# Altium schematic symbol library WL-OCTR.SchLib: 103 symbols (part 1 of 2)
Pins are listed as number, name and electrical type; pins without a type are passive.

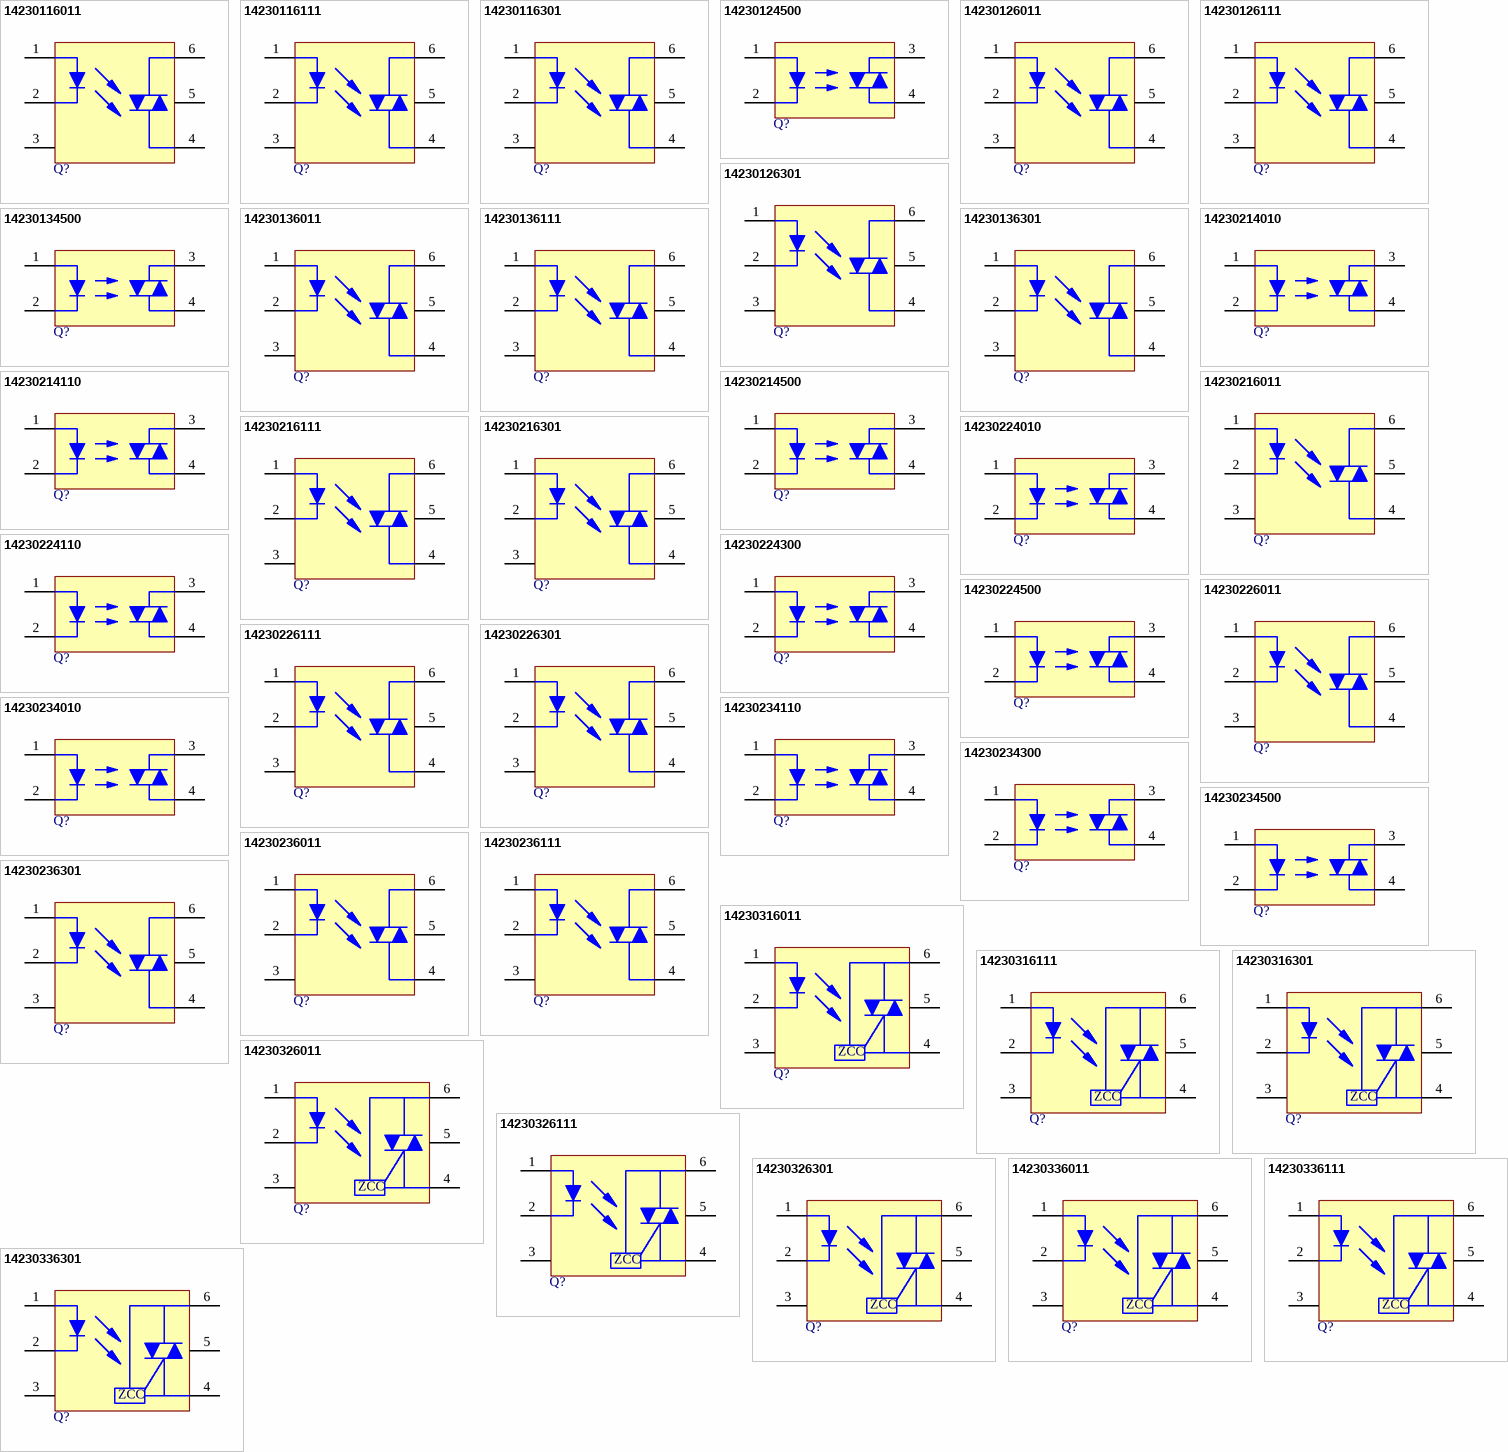
[diagram p0: symbols 14230116011 to 14230336301]

## 14230116011
designator Q?, comment 15mA, 1.24V  (value not drawn)
WL-OCTR Optocoupler Triac, THT, DIP-6_Standard, 15mA, 1.24V; Manufacturer Part Number: 14230116011; Manufacturer: Wurth Elektronik; Isolation Voltage: 5000V (RMS); Repetitive Peak Off-state Voltage: 250V; Type: Random phase; Category: Optocoupler Triac; Match Code: WL-OCTR; ComponentLink1Description: Website Link; ComponentLink1URL: https://www.we-online.com/redexpert/article/14230116011?ad; ComponentLink2Description: Datasheet Link; ComponentLink2URL: https://www.we-online.com/redexpert/spec/14230116011?ad; Mount: Through Hole; Operating Temperature Max: 100°C; Operating Temperature Min: -40°C; Packaging: Tube; Case/Size Code: DIP-6_Standard; Forward Voltage: 1.24V; LED Trigger current: 15mA
footprint WL-OCTR_DIP-6_Standard
pins: 1 Anode, 2 Cathode, 3 NC, 4 Terminal, 5 NC, 6 Terminal

## 14230116111
designator Q?, comment 15mA, 1.24V  (value not drawn)
WL-OCTR Optocoupler Triac, THT, DIP-6_M-Type, 15mA, 1.24V; Manufacturer Part Number: 14230116111; Manufacturer: Wurth Elektronik; Isolation Voltage: 5000V (RMS); Repetitive Peak Off-state Voltage: 250V; Type: Random phase; Category: Optocoupler Triac; Match Code: WL-OCTR; ComponentLink1Description: Website Link; ComponentLink1URL: https://www.we-online.com/redexpert/article/14230116111?ad; ComponentLink2Description: Datasheet Link; ComponentLink2URL: https://www.we-online.com/redexpert/spec/14230116111?ad; Mount: Through Hole; Operating Temperature Max: 100°C; Operating Temperature Min: -40°C; Packaging: Tube; Case/Size Code: DIP-6_M-Type; Forward Voltage: 1.24V; LED Trigger current: 15mA
footprint WL-OCTR_DIP-6_M-Type
pins: 1 Anode, 2 Cathode, 3 NC, 4 Terminal, 5 NC, 6 Terminal

## 14230116301
designator Q?, comment 15mA, 1.24V  (value not drawn)
WL-OCTR Optocoupler Triac, SMT, DIP-6_SL-Type, 15mA, 1.24V; Manufacturer Part Number: 14230116301; Manufacturer: Wurth Elektronik; Isolation Voltage: 5000V (RMS); Repetitive Peak Off-state Voltage: 250V; Type: Random phase; Category: Optocoupler Triac; Match Code: WL-OCTR; ComponentLink1Description: Website Link; ComponentLink1URL: https://www.we-online.com/redexpert/article/14230116301?ad; ComponentLink2Description: Datasheet Link; ComponentLink2URL: https://www.we-online.com/redexpert/spec/14230116301?ad; Mount: Surface Mount; Operating Temperature Max: 100°C; Operating Temperature Min: -40°C; Packaging: Tube; Case/Size Code: DIP-6_SL-Type; Forward Voltage: 1.24V; LED Trigger current: 15mA
footprint WL-OCTR_DIP-6_SL-Type
pins: 1 Anode, 2 Cathode, 3 NC, 4 Terminal, 5 NC, 6 Terminal

## 14230124500
designator Q?, comment 10mA, 1.24V  (value not drawn)
WL-OCTR Optocoupler Triac, SMT, SOP-4_Standard, 10mA, 1.24V; Manufacturer Part Number: 14230124500; Manufacturer: Wurth Elektronik; Isolation Voltage: 3750V (RMS); Repetitive Peak Off-state Voltage: 250V; Type: Random phase; Category: Optocoupler Triac; Match Code: WL-OCTR; ComponentLink1Description: Website Link; ComponentLink1URL: https://www.we-online.com/redexpert/article/14230124500?ad; ComponentLink2Description: Datasheet Link; ComponentLink2URL: https://www.we-online.com/redexpert/spec/14230124500?ad; Mount: Surface Mount; Operating Temperature Max: 100°C; Operating Temperature Min: -40°C; Packaging: Tape and Reel; Case/Size Code: SOP-4_Standard; Forward Voltage: 1.24V; LED Trigger current: 10mA
footprint WL-OCTR_SOP-4_Standard
pins: 1 Anode, 2 Cathode, 3 Terminal, 4 Terminal

## 14230126011
designator Q?, comment 10mA, 1.24V  (value not drawn)
WL-OCTR Optocoupler Triac, THT, DIP-6_Standard, 10mA, 1.24V; Manufacturer Part Number: 14230126011; Manufacturer: Wurth Elektronik; Isolation Voltage: 5000V (RMS); Repetitive Peak Off-state Voltage: 250V; Type: Random phase; Category: Optocoupler Triac; Match Code: WL-OCTR; ComponentLink1Description: Website Link; ComponentLink1URL: https://www.we-online.com/redexpert/article/14230126011?ad; ComponentLink2Description: Datasheet Link; ComponentLink2URL: https://www.we-online.com/redexpert/spec/14230126011?ad; Mount: Through Hole; Operating Temperature Max: 100°C; Operating Temperature Min: -40°C; Packaging: Tube; Case/Size Code: DIP-6_Standard; Forward Voltage: 1.24V; LED Trigger current: 10mA
footprint WL-OCTR_DIP-6_Standard
pins: 1 Anode, 2 Cathode, 3 NC, 4 Terminal, 5 NC, 6 Terminal

## 14230126111
designator Q?, comment 10mA, 1.24V  (value not drawn)
WL-OCTR Optocoupler Triac, THT, DIP-6_M-Type, 10mA, 1.24V; Manufacturer Part Number: 14230126111; Manufacturer: Wurth Elektronik; Isolation Voltage: 5000V (RMS); Repetitive Peak Off-state Voltage: 250V; Type: Random phase; Category: Optocoupler Triac; Match Code: WL-OCTR; ComponentLink1Description: Website Link; ComponentLink1URL: https://www.we-online.com/redexpert/article/14230126111?ad; ComponentLink2Description: Datasheet Link; ComponentLink2URL: https://www.we-online.com/redexpert/spec/14230126111?ad; Mount: Through Hole; Operating Temperature Max: 100°C; Operating Temperature Min: -40°C; Packaging: Tube; Case/Size Code: DIP-6_M-Type; Forward Voltage: 1.24V; LED Trigger current: 10mA
footprint WL-OCTR_DIP-6_M-Type
pins: 1 Anode, 2 Cathode, 3 NC, 4 Terminal, 5 NC, 6 Terminal

## 14230126301
designator Q?, comment 10mA, 1.24V  (value not drawn)
WL-OCTR Optocoupler Triac, SMT, DIP-6_SL-Type, 10mA, 1.24V; Manufacturer Part Number: 14230126301; Manufacturer: Wurth Elektronik; Isolation Voltage: 5000V (RMS); Repetitive Peak Off-state Voltage: 250V; Type: Random phase; Category: Optocoupler Triac; Match Code: WL-OCTR; ComponentLink1Description: Website Link; ComponentLink1URL: https://www.we-online.com/redexpert/article/14230126301?ad; ComponentLink2Description: Datasheet Link; ComponentLink2URL: https://www.we-online.com/redexpert/spec/14230126301?ad; Mount: Surface Mount; Operating Temperature Max: 100°C; Operating Temperature Min: -40°C; Packaging: Tube; Case/Size Code: DIP-6_SL-Type; Forward Voltage: 1.24V; LED Trigger current: 10mA
footprint WL-OCTR_DIP-6_SL-Type
pins: 1 Anode, 2 Cathode, 3 NC, 4 Terminal, 5 NC, 6 Terminal

## 14230134500
designator Q?, comment 5mA, 1.24V  (value not drawn)
WL-OCTR Optocoupler Triac, SMT, SOP-4_Standard, 5mA, 1.24V; Manufacturer Part Number: 14230134500; Manufacturer: Wurth Elektronik; Isolation Voltage: 3750V (RMS); Repetitive Peak Off-state Voltage: 250V; Type: Random phase; Category: Optocoupler Triac; Match Code: WL-OCTR; ComponentLink1Description: Website Link; ComponentLink1URL: https://www.we-online.com/redexpert/article/14230134500?ad; ComponentLink2Description: Datasheet Link; ComponentLink2URL: https://www.we-online.com/redexpert/spec/14230134500?ad; Mount: Surface Mount; Operating Temperature Max: 100°C; Operating Temperature Min: -40°C; Packaging: Tape and Reel; Case/Size Code: SOP-4_Standard; Forward Voltage: 1.24V; LED Trigger current: 5mA
footprint WL-OCTR_SOP-4_Standard
pins: 1 Anode, 2 Cathode, 3 Terminal, 4 Terminal

## 14230136011
designator Q?, comment 5mA, 1.24V  (value not drawn)
WL-OCTR Optocoupler Triac, THT, DIP-6_Standard, 5mA, 1.24V; Manufacturer Part Number: 14230136011; Manufacturer: Wurth Elektronik; Isolation Voltage: 5000V (RMS); Repetitive Peak Off-state Voltage: 250V; Type: Random phase; Category: Optocoupler Triac; Match Code: WL-OCTR; ComponentLink1Description: Website Link; ComponentLink1URL: https://www.we-online.com/redexpert/article/14230136011?ad; ComponentLink2Description: Datasheet Link; ComponentLink2URL: https://www.we-online.com/redexpert/spec/14230136011?ad; Mount: Through Hole; Operating Temperature Max: 100°C; Operating Temperature Min: -40°C; Packaging: Tube; Case/Size Code: DIP-6_Standard; Forward Voltage: 1.24V; LED Trigger current: 5mA
footprint WL-OCTR_DIP-6_Standard
pins: 1 Anode, 2 Cathode, 3 NC, 4 Terminal, 5 NC, 6 Terminal

## 14230136111
designator Q?, comment 5mA, 1.24V  (value not drawn)
WL-OCTR Optocoupler Triac, THT, DIP-6_M-Type, 5mA, 1.24V; Manufacturer Part Number: 14230136111; Manufacturer: Wurth Elektronik; Isolation Voltage: 5000V (RMS); Repetitive Peak Off-state Voltage: 250V; Type: Random phase; Category: Optocoupler Triac; Match Code: WL-OCTR; ComponentLink1Description: Website Link; ComponentLink1URL: https://www.we-online.com/redexpert/article/14230136111?ad; ComponentLink2Description: Datasheet Link; ComponentLink2URL: https://www.we-online.com/redexpert/spec/14230136111?ad; Mount: Through Hole; Operating Temperature Max: 100°C; Operating Temperature Min: -40°C; Packaging: Tube; Case/Size Code: DIP-6_M-Type; Forward Voltage: 1.24V; LED Trigger current: 5mA
footprint WL-OCTR_DIP-6_M-Type
pins: 1 Anode, 2 Cathode, 3 NC, 4 Terminal, 5 NC, 6 Terminal

## 14230136301
designator Q?, comment 5mA, 1.24V  (value not drawn)
WL-OCTR Optocoupler Triac, SMT, DIP-6_SL-Type, 5mA, 1.24V; Manufacturer Part Number: 14230136301; Manufacturer: Wurth Elektronik; Isolation Voltage: 5000V (RMS); Repetitive Peak Off-state Voltage: 250V; Type: Random phase; Category: Optocoupler Triac; Match Code: WL-OCTR; ComponentLink1Description: Website Link; ComponentLink1URL: https://www.we-online.com/redexpert/article/14230136301?ad; ComponentLink2Description: Datasheet Link; ComponentLink2URL: https://www.we-online.com/redexpert/spec/14230136301?ad; Mount: Surface Mount; Operating Temperature Max: 100°C; Operating Temperature Min: -40°C; Packaging: Tube; Case/Size Code: DIP-6_SL-Type; Forward Voltage: 1.24V; LED Trigger current: 5mA
footprint WL-OCTR_DIP-6_SL-Type
pins: 1 Anode, 2 Cathode, 3 NC, 4 Terminal, 5 NC, 6 Terminal

## 14230214010
designator Q?, comment 15mA, 1.24V  (value not drawn)
WL-OCTR Optocoupler Triac, THT, DIP-4_Standard, 15mA, 1.24V; Manufacturer Part Number: 14230214010; Manufacturer: Wurth Elektronik; Isolation Voltage: 5000V (RMS); Repetitive Peak Off-state Voltage: 400V; Type: Random phase; Category: Optocoupler Triac; Match Code: WL-OCTR; ComponentLink1Description: Website Link; ComponentLink1URL: https://www.we-online.com/redexpert/article/14230214010?ad; ComponentLink2Description: Datasheet Link; ComponentLink2URL: https://www.we-online.com/redexpert/spec/14230214010?ad; Mount: Through Hole; Operating Temperature Max: 100°C; Operating Temperature Min: -40°C; Packaging: Tube; Case/Size Code: DIP-4_Standard; Forward Voltage: 1.24V; LED Trigger current: 15mA
footprint WL-OCTR_DIP-4_Standard
pins: 1 Anode, 2 Cathode, 3 Terminal, 4 Terminal

## 14230214110
designator Q?, comment 15mA, 1.24V  (value not drawn)
WL-OCTR Optocoupler Triac, THT, DIP-4_M-Type, 15mA, 1.24V; Manufacturer Part Number: 14230214110; Manufacturer: Wurth Elektronik; Isolation Voltage: 5000V (RMS); Repetitive Peak Off-state Voltage: 400V; Type: Random phase; Category: Optocoupler Triac; Match Code: WL-OCTR; ComponentLink1Description: Website Link; ComponentLink1URL: https://www.we-online.com/redexpert/article/14230214110?ad; ComponentLink2Description: Datasheet Link; ComponentLink2URL: https://www.we-online.com/redexpert/spec/14230214110?ad; Mount: Through Hole; Operating Temperature Max: 100°C; Operating Temperature Min: -40°C; Packaging: Tube; Case/Size Code: DIP-4_M-Type; Forward Voltage: 1.24V; LED Trigger current: 15mA
footprint WL-OCTR_DIP-4_M-Type
pins: 1 Anode, 2 Cathode, 3 Terminal, 4 Terminal

## 14230214500
designator Q?, comment 15mA, 1.24V  (value not drawn)
WL-OCTR Optocoupler Triac, SMT, SOP-4_Standard, 15mA, 1.24V; Manufacturer Part Number: 14230214500; Manufacturer: Wurth Elektronik; Isolation Voltage: 3750V (RMS); Repetitive Peak Off-state Voltage: 400V; Type: Random phase; Category: Optocoupler Triac; Match Code: WL-OCTR; ComponentLink1Description: Website Link; ComponentLink1URL: https://www.we-online.com/redexpert/article/14230214500?ad; ComponentLink2Description: Datasheet Link; ComponentLink2URL: https://www.we-online.com/redexpert/spec/14230214500?ad; Mount: Surface Mount; Operating Temperature Max: 100°C; Operating Temperature Min: -40°C; Packaging: Tape and Reel; Case/Size Code: SOP-4_Standard; Forward Voltage: 1.24V; LED Trigger current: 15mA
footprint WL-OCTR_SOP-4_Standard
pins: 1 Anode, 2 Cathode, 3 Terminal, 4 Terminal

## 14230216011
designator Q?, comment 15mA, 1.24V  (value not drawn)
WL-OCTR Optocoupler Triac, THT, DIP-6_Standard, 15mA, 1.24V; Manufacturer Part Number: 14230216011; Manufacturer: Wurth Elektronik; Isolation Voltage: 5000V (RMS); Repetitive Peak Off-state Voltage: 400V; Type: Random phase; Category: Optocoupler Triac; Match Code: WL-OCTR; ComponentLink1Description: Website Link; ComponentLink1URL: https://www.we-online.com/redexpert/article/14230216011?ad; ComponentLink2Description: Datasheet Link; ComponentLink2URL: https://www.we-online.com/redexpert/spec/14230216011?ad; Mount: Through Hole; Operating Temperature Max: 100°C; Operating Temperature Min: -40°C; Packaging: Tube; Case/Size Code: DIP-6_Standard; Forward Voltage: 1.24V; LED Trigger current: 15mA
footprint WL-OCTR_DIP-6_Standard
pins: 1 Anode, 2 Cathode, 3 NC, 4 Terminal, 5 NC, 6 Terminal

## 14230216111
designator Q?, comment 15mA, 1.24V  (value not drawn)
WL-OCTR Optocoupler Triac, THT, DIP-6_M-Type, 15mA, 1.24V; Manufacturer Part Number: 14230216111; Manufacturer: Wurth Elektronik; Isolation Voltage: 5000V (RMS); Repetitive Peak Off-state Voltage: 400V; Type: Random phase; Category: Optocoupler Triac; Match Code: WL-OCTR; ComponentLink1Description: Website Link; ComponentLink1URL: https://www.we-online.com/redexpert/article/14230216111?ad; ComponentLink2Description: Datasheet Link; ComponentLink2URL: https://www.we-online.com/redexpert/spec/14230216111?ad; Mount: Through Hole; Operating Temperature Max: 100°C; Operating Temperature Min: -40°C; Packaging: Tube; Case/Size Code: DIP-6_M-Type; Forward Voltage: 1.24V; LED Trigger current: 15mA
footprint WL-OCTR_DIP-6_M-Type
pins: 1 Anode, 2 Cathode, 3 NC, 4 Terminal, 5 NC, 6 Terminal

## 14230216301
designator Q?, comment 15mA, 1.24V  (value not drawn)
WL-OCTR Optocoupler Triac, SMT, DIP-6_SL-Type, 15mA, 1.24V; Manufacturer Part Number: 14230216301; Manufacturer: Wurth Elektronik; Isolation Voltage: 5000V (RMS); Repetitive Peak Off-state Voltage: 400V; Type: Random phase; Category: Optocoupler Triac; Match Code: WL-OCTR; ComponentLink1Description: Website Link; ComponentLink1URL: https://www.we-online.com/redexpert/article/14230216301?ad; ComponentLink2Description: Datasheet Link; ComponentLink2URL: https://www.we-online.com/redexpert/spec/14230216301?ad; Mount: Surface Mount; Operating Temperature Max: 100°C; Operating Temperature Min: -40°C; Packaging: Tube; Case/Size Code: DIP-6_SL-Type; Forward Voltage: 1.24V; LED Trigger current: 15mA
footprint WL-OCTR_DIP-6_SL-Type
pins: 1 Anode, 2 Cathode, 3 NC, 4 Terminal, 5 NC, 6 Terminal

## 14230224010
designator Q?, comment 10mA, 1.24V  (value not drawn)
WL-OCTR Optocoupler Triac, THT, DIP-4_Standard, 10mA, 1.24V; Manufacturer Part Number: 14230224010; Manufacturer: Wurth Elektronik; Isolation Voltage: 5000V (RMS); Repetitive Peak Off-state Voltage: 400V; Type: Random phase; Category: Optocoupler Triac; Match Code: WL-OCTR; ComponentLink1Description: Website Link; ComponentLink1URL: https://www.we-online.com/redexpert/article/14230224010?ad; ComponentLink2Description: Datasheet Link; ComponentLink2URL: https://www.we-online.com/redexpert/spec/14230224010?ad; Mount: Through Hole; Operating Temperature Max: 100°C; Operating Temperature Min: -40°C; Packaging: Tube; Case/Size Code: DIP-4_Standard; Forward Voltage: 1.24V; LED Trigger current: 10mA
footprint WL-OCTR_DIP-4_Standard
pins: 1 Anode, 2 Cathode, 3 Terminal, 4 Terminal

## 14230224110
designator Q?, comment 10mA, 1.24V  (value not drawn)
WL-OCTR Optocoupler Triac, THT, DIP-4_M-Type, 10mA, 1.24V; Manufacturer Part Number: 14230224110; Manufacturer: Wurth Elektronik; Isolation Voltage: 5000V (RMS); Repetitive Peak Off-state Voltage: 400V; Type: Random phase; Category: Optocoupler Triac; Match Code: WL-OCTR; ComponentLink1Description: Website Link; ComponentLink1URL: https://www.we-online.com/redexpert/article/14230224110?ad; ComponentLink2Description: Datasheet Link; ComponentLink2URL: https://www.we-online.com/redexpert/spec/14230224110?ad; Mount: Through Hole; Operating Temperature Max: 100°C; Operating Temperature Min: -40°C; Packaging: Tube; Case/Size Code: DIP-4_M-Type; Forward Voltage: 1.24V; LED Trigger current: 10mA
footprint WL-OCTR_DIP-4_M-Type
pins: 1 Anode, 2 Cathode, 3 Terminal, 4 Terminal

## 14230224300
designator Q?, comment 10mA, 1.24V  (value not drawn)
WL-OCTR Optocoupler Triac, SMT, DIP-4_SL-Type, 10mA, 1.24V; Manufacturer Part Number: 14230224300; Manufacturer: Wurth Elektronik; Isolation Voltage: 5000V (RMS); Repetitive Peak Off-state Voltage: 400V; Type: Random phase; Category: Optocoupler Triac; Match Code: WL-OCTR; ComponentLink1Description: Website Link; ComponentLink1URL: https://www.we-online.com/redexpert/article/14230224300?ad; ComponentLink2Description: Datasheet Link; ComponentLink2URL: https://www.we-online.com/redexpert/spec/14230224300?ad; Mount: Surface Mount; Operating Temperature Max: 100°C; Operating Temperature Min: -40°C; Packaging: Tube; Case/Size Code: DIP-4_SL-Type; Forward Voltage: 1.24V; LED Trigger current: 10mA
footprint WL-OCTR_DIP-4_SL-Type
pins: 1 Anode, 2 Cathode, 3 Terminal, 4 Terminal

## 14230224500
designator Q?, comment 10mA, 1.24V  (value not drawn)
WL-OCTR Optocoupler Triac, SMT, SOP-4_Standard, 10mA, 1.24V; Manufacturer Part Number: 14230224500; Manufacturer: Wurth Elektronik; Isolation Voltage: 3750V (RMS); Repetitive Peak Off-state Voltage: 400V; Type: Random phase; Category: Optocoupler Triac; Match Code: WL-OCTR; ComponentLink1Description: Website Link; ComponentLink1URL: https://www.we-online.com/redexpert/article/14230224500?ad; ComponentLink2Description: Datasheet Link; ComponentLink2URL: https://www.we-online.com/redexpert/spec/14230224500?ad; Mount: Surface Mount; Operating Temperature Max: 100°C; Operating Temperature Min: -40°C; Packaging: Tape and Reel; Case/Size Code: SOP-4_Standard; Forward Voltage: 1.24V; LED Trigger current: 10mA
footprint WL-OCTR_SOP-4_Standard
pins: 1 Anode, 2 Cathode, 3 Terminal, 4 Terminal

## 14230226011
designator Q?, comment 10mA, 1.24V  (value not drawn)
WL-OCTR Optocoupler Triac, THT, DIP-6_Standard, 10mA, 1.24V; Manufacturer Part Number: 14230226011; Manufacturer: Wurth Elektronik; Isolation Voltage: 5000V (RMS); Repetitive Peak Off-state Voltage: 400V; Type: Random phase; Category: Optocoupler Triac; Match Code: WL-OCTR; ComponentLink1Description: Website Link; ComponentLink1URL: https://www.we-online.com/redexpert/article/14230226011?ad; ComponentLink2Description: Datasheet Link; ComponentLink2URL: https://www.we-online.com/redexpert/spec/14230226011?ad; Mount: Through Hole; Operating Temperature Max: 100°C; Operating Temperature Min: -40°C; Packaging: Tube; Case/Size Code: DIP-6_Standard; Forward Voltage: 1.24V; LED Trigger current: 10mA
footprint WL-OCTR_DIP-6_Standard
pins: 1 Anode, 2 Cathode, 3 NC, 4 Terminal, 5 NC, 6 Terminal

## 14230226111
designator Q?, comment 10mA, 1.24V  (value not drawn)
WL-OCTR Optocoupler Triac, THT, DIP-6_M-Type, 10mA, 1.24V; Manufacturer Part Number: 14230226111; Manufacturer: Wurth Elektronik; Isolation Voltage: 5000V (RMS); Repetitive Peak Off-state Voltage: 400V; Type: Random phase; Category: Optocoupler Triac; Match Code: WL-OCTR; ComponentLink1Description: Website Link; ComponentLink1URL: https://www.we-online.com/redexpert/article/14230226111?ad; ComponentLink2Description: Datasheet Link; ComponentLink2URL: https://www.we-online.com/redexpert/spec/14230226111?ad; Mount: Through Hole; Operating Temperature Max: 100°C; Operating Temperature Min: -40°C; Packaging: Tube; Case/Size Code: DIP-6_M-Type; Forward Voltage: 1.24V; LED Trigger current: 10mA
footprint WL-OCTR_DIP-6_M-Type
pins: 1 Anode, 2 Cathode, 3 NC, 4 Terminal, 5 NC, 6 Terminal

## 14230226301
designator Q?, comment 10mA, 1.24V  (value not drawn)
WL-OCTR Optocoupler Triac, SMT, DIP-6_SL-Type, 10mA, 1.24V; Manufacturer Part Number: 14230226301; Manufacturer: Wurth Elektronik; Isolation Voltage: 5000V (RMS); Repetitive Peak Off-state Voltage: 400V; Type: Random phase; Category: Optocoupler Triac; Match Code: WL-OCTR; ComponentLink1Description: Website Link; ComponentLink1URL: https://www.we-online.com/redexpert/article/14230226301?ad; ComponentLink2Description: Datasheet Link; ComponentLink2URL: https://www.we-online.com/redexpert/spec/14230226301?ad; Mount: Surface Mount; Operating Temperature Max: 100°C; Operating Temperature Min: -40°C; Packaging: Tube; Case/Size Code: DIP-6_SL-Type; Forward Voltage: 1.24V; LED Trigger current: 10mA
footprint WL-OCTR_DIP-6_SL-Type
pins: 1 Anode, 2 Cathode, 3 NC, 4 Terminal, 5 NC, 6 Terminal

## 14230234010
designator Q?, comment 5mA, 1.24V  (value not drawn)
WL-OCTR Optocoupler Triac, THT, DIP-4_Standard, 5mA, 1.24V; Manufacturer Part Number: 14230234010; Manufacturer: Wurth Elektronik; Isolation Voltage: 5000V (RMS); Repetitive Peak Off-state Voltage: 400V; Type: Random phase; Category: Optocoupler Triac; Match Code: WL-OCTR; ComponentLink1Description: Website Link; ComponentLink1URL: https://www.we-online.com/redexpert/article/14230234010?ad; ComponentLink2Description: Datasheet Link; ComponentLink2URL: https://www.we-online.com/redexpert/spec/14230234010?ad; Mount: Through Hole; Operating Temperature Max: 100°C; Operating Temperature Min: -40°C; Packaging: Tube; Case/Size Code: DIP-4_Standard; Forward Voltage: 1.24V; LED Trigger current: 5mA
footprint WL-OCTR_DIP-4_Standard
pins: 1 Anode, 2 Cathode, 3 Terminal, 4 Terminal

## 14230234110
designator Q?, comment 5mA, 1.24V  (value not drawn)
WL-OCTR Optocoupler Triac, THT, DIP-4_M-Type, 5mA, 1.24V; Manufacturer Part Number: 14230234110; Manufacturer: Wurth Elektronik; Isolation Voltage: 5000V (RMS); Repetitive Peak Off-state Voltage: 400V; Type: Random phase; Category: Optocoupler Triac; Match Code: WL-OCTR; ComponentLink1Description: Website Link; ComponentLink1URL: https://www.we-online.com/redexpert/article/14230234110?ad; ComponentLink2Description: Datasheet Link; ComponentLink2URL: https://www.we-online.com/redexpert/spec/14230234110?ad; Mount: Through Hole; Operating Temperature Max: 100°C; Operating Temperature Min: -40°C; Packaging: Tube; Case/Size Code: DIP-4_M-Type; Forward Voltage: 1.24V; LED Trigger current: 5mA
footprint WL-OCTR_DIP-4_M-Type
pins: 1 Anode, 2 Cathode, 3 Terminal, 4 Terminal

## 14230234300
designator Q?, comment 5mA, 1.24V  (value not drawn)
WL-OCTR Optocoupler Triac, SMT, DIP-4_SL-Type, 5mA, 1.24V; Manufacturer Part Number: 14230234300; Manufacturer: Wurth Elektronik; Isolation Voltage: 5000V (RMS); Repetitive Peak Off-state Voltage: 400V; Type: Random phase; Category: Optocoupler Triac; Match Code: WL-OCTR; ComponentLink1Description: Website Link; ComponentLink1URL: https://www.we-online.com/redexpert/article/14230234300?ad; ComponentLink2Description: Datasheet Link; ComponentLink2URL: https://www.we-online.com/redexpert/spec/14230234300?ad; Mount: Surface Mount; Operating Temperature Max: 100°C; Operating Temperature Min: -40°C; Packaging: Tube; Case/Size Code: DIP-4_SL-Type; Forward Voltage: 1.24V; LED Trigger current: 5mA
footprint WL-OCTR_DIP-4_SL-Type
pins: 1 Anode, 2 Cathode, 3 Terminal, 4 Terminal

## 14230234500
designator Q?, comment 5mA, 1.24V  (value not drawn)
WL-OCTR Optocoupler Triac, SMT, SOP-4_Standard, 5mA, 1.24V; Manufacturer Part Number: 14230234500; Manufacturer: Wurth Elektronik; Isolation Voltage: 3750V (RMS); Repetitive Peak Off-state Voltage: 400V; Type: Random phase; Category: Optocoupler Triac; Match Code: WL-OCTR; ComponentLink1Description: Website Link; ComponentLink1URL: https://www.we-online.com/redexpert/article/14230234500?ad; ComponentLink2Description: Datasheet Link; ComponentLink2URL: https://www.we-online.com/redexpert/spec/14230234500?ad; Mount: Surface Mount; Operating Temperature Max: 100°C; Operating Temperature Min: -40°C; Packaging: Tape and Reel; Case/Size Code: SOP-4_Standard; Forward Voltage: 1.24V; LED Trigger current: 5mA
footprint WL-OCTR_SOP-4_Standard
pins: 1 Anode, 2 Cathode, 3 Terminal, 4 Terminal

## 14230236011
designator Q?, comment 5mA, 1.24V  (value not drawn)
WL-OCTR Optocoupler Triac, THT, DIP-6_Standard, 5mA, 1.24V; Manufacturer Part Number: 14230236011; Manufacturer: Wurth Elektronik; Isolation Voltage: 5000V (RMS); Repetitive Peak Off-state Voltage: 400V; Type: Random phase; Category: Optocoupler Triac; Match Code: WL-OCTR; ComponentLink1Description: Website Link; ComponentLink1URL: https://www.we-online.com/redexpert/article/14230236011?ad; ComponentLink2Description: Datasheet Link; ComponentLink2URL: https://www.we-online.com/redexpert/spec/14230236011?ad; Mount: Through Hole; Operating Temperature Max: 100°C; Operating Temperature Min: -40°C; Packaging: Tube; Case/Size Code: DIP-6_Standard; Forward Voltage: 1.24V; LED Trigger current: 5mA
footprint WL-OCTR_DIP-6_Standard
pins: 1 Anode, 2 Cathode, 3 NC, 4 Terminal, 5 NC, 6 Terminal

## 14230236111
designator Q?, comment 5mA, 1.24V  (value not drawn)
WL-OCTR Optocoupler Triac, THT, DIP-6_M-Type, 5mA, 1.24V; Manufacturer Part Number: 14230236111; Manufacturer: Wurth Elektronik; Isolation Voltage: 5000V (RMS); Repetitive Peak Off-state Voltage: 400V; Type: Random phase; Category: Optocoupler Triac; Match Code: WL-OCTR; ComponentLink1Description: Website Link; ComponentLink1URL: https://www.we-online.com/redexpert/article/14230236111?ad; ComponentLink2Description: Datasheet Link; ComponentLink2URL: https://www.we-online.com/redexpert/spec/14230236111?ad; Mount: Through Hole; Operating Temperature Max: 100°C; Operating Temperature Min: -40°C; Packaging: Tube; Case/Size Code: DIP-6_M-Type; Forward Voltage: 1.24V; LED Trigger current: 5mA
footprint WL-OCTR_DIP-6_M-Type
pins: 1 Anode, 2 Cathode, 3 NC, 4 Terminal, 5 NC, 6 Terminal

## 14230236301
designator Q?, comment 5mA, 1.24V  (value not drawn)
WL-OCTR Optocoupler Triac, SMT, DIP-6_SL-Type, 5mA, 1.24V; Manufacturer Part Number: 14230236301; Manufacturer: Wurth Elektronik; Isolation Voltage: 5000V (RMS); Repetitive Peak Off-state Voltage: 400V; Type: Random phase; Category: Optocoupler Triac; Match Code: WL-OCTR; ComponentLink1Description: Website Link; ComponentLink1URL: https://www.we-online.com/redexpert/article/14230236301?ad; ComponentLink2Description: Datasheet Link; ComponentLink2URL: https://www.we-online.com/redexpert/spec/14230236301?ad; Mount: Surface Mount; Operating Temperature Max: 100°C; Operating Temperature Min: -40°C; Packaging: Tube; Case/Size Code: DIP-6_SL-Type; Forward Voltage: 1.24V; LED Trigger current: 5mA
footprint WL-OCTR_DIP-6_SL-Type
pins: 1 Anode, 2 Cathode, 3 NC, 4 Terminal, 5 NC, 6 Terminal

## 14230316011
designator Q?, comment 15mA, 1.24V  (value not drawn)
WL-OCTR Optocoupler Triac, THT, DIP-6_Standard, 15mA, 1.24V; Manufacturer Part Number: 14230316011; Manufacturer: Wurth Elektronik; Isolation Voltage: 5000V (RMS); Repetitive Peak Off-state Voltage: 250V; Type: Zero Cross; Category: Optocoupler Triac; Match Code: WL-OCTR; ComponentLink1Description: Website Link; ComponentLink1URL: https://www.we-online.com/redexpert/article/14230316011?ad; ComponentLink2Description: Datasheet Link; ComponentLink2URL: https://www.we-online.com/redexpert/spec/14230316011?ad; Mount: Through Hole; Operating Temperature Max: 100°C; Operating Temperature Min: -40°C; Packaging: Tube; Case/Size Code: DIP-6_Standard; Forward Voltage: 1.24V; LED Trigger current: 15mA
footprint WL-OCTR_DIP-6_Standard
pins: 1 Anode, 2 Cathode, 3 NC, 4 Terminal, 5 NC, 6 Terminal
text: ZCC

## 14230316111
designator Q?, comment 15mA, 1.24V  (value not drawn)
WL-OCTR Optocoupler Triac, THT, DIP-6_M-Type, 15mA, 1.24V; Manufacturer Part Number: 14230316111; Manufacturer: Wurth Elektronik; Isolation Voltage: 5000V (RMS); Repetitive Peak Off-state Voltage: 250V; Type: Zero Cross; Category: Optocoupler Triac; Match Code: WL-OCTR; ComponentLink1Description: Website Link; ComponentLink1URL: https://www.we-online.com/redexpert/article/14230316111?ad; ComponentLink2Description: Datasheet Link; ComponentLink2URL: https://www.we-online.com/redexpert/spec/14230316111?ad; Mount: Through Hole; Operating Temperature Max: 100°C; Operating Temperature Min: -40°C; Packaging: Tube; Case/Size Code: DIP-6_M-Type; Forward Voltage: 1.24V; LED Trigger current: 15mA
footprint WL-OCTR_DIP-6_M-Type
pins: 1 Anode, 2 Cathode, 3 NC, 4 Terminal, 5 NC, 6 Terminal
text: ZCC

## 14230316301
designator Q?, comment 15mA, 1.24V  (value not drawn)
WL-OCTR Optocoupler Triac, SMT, DIP-6_SL-Type, 15mA, 1.24V; Manufacturer Part Number: 14230316301; Manufacturer: Wurth Elektronik; Isolation Voltage: 5000V (RMS); Repetitive Peak Off-state Voltage: 250V; Type: Zero Cross; Category: Optocoupler Triac; Match Code: WL-OCTR; ComponentLink1Description: Website Link; ComponentLink1URL: https://www.we-online.com/redexpert/article/14230316301?ad; ComponentLink2Description: Datasheet Link; ComponentLink2URL: https://www.we-online.com/redexpert/spec/14230316301?ad; Mount: Surface Mount; Operating Temperature Max: 100°C; Operating Temperature Min: -40°C; Packaging: Tube; Case/Size Code: DIP-6_SL-Type; Forward Voltage: 1.24V; LED Trigger current: 15mA
footprint WL-OCTR_DIP-6_SL-Type
pins: 1 Anode, 2 Cathode, 3 NC, 4 Terminal, 5 NC, 6 Terminal
text: ZCC

## 14230326011
designator Q?, comment 10mA, 1.24V  (value not drawn)
WL-OCTR Optocoupler Triac, THT, DIP-6_Standard, 10mA, 1.24V; Manufacturer Part Number: 14230326011; Manufacturer: Wurth Elektronik; Isolation Voltage: 5000V (RMS); Repetitive Peak Off-state Voltage: 250V; Type: Zero Cross; Category: Optocoupler Triac; Match Code: WL-OCTR; ComponentLink1Description: Website Link; ComponentLink1URL: https://www.we-online.com/redexpert/article/14230326011?ad; ComponentLink2Description: Datasheet Link; ComponentLink2URL: https://www.we-online.com/redexpert/spec/14230326011?ad; Mount: Through Hole; Operating Temperature Max: 100°C; Operating Temperature Min: -40°C; Packaging: Tube; Case/Size Code: DIP-6_Standard; Forward Voltage: 1.24V; LED Trigger current: 10mA
footprint WL-OCTR_DIP-6_Standard
pins: 1 Anode, 2 Cathode, 3 NC, 4 Terminal, 5 NC, 6 Terminal
text: ZCC

## 14230326111
designator Q?, comment 10mA, 1.24V  (value not drawn)
WL-OCTR Optocoupler Triac, THT, DIP-6_M-Type, 10mA, 1.24V; Manufacturer Part Number: 14230326111; Manufacturer: Wurth Elektronik; Isolation Voltage: 5000V (RMS); Repetitive Peak Off-state Voltage: 250V; Type: Zero Cross; Category: Optocoupler Triac; Match Code: WL-OCTR; ComponentLink1Description: Website Link; ComponentLink1URL: https://www.we-online.com/redexpert/article/14230326111?ad; ComponentLink2Description: Datasheet Link; ComponentLink2URL: https://www.we-online.com/redexpert/spec/14230326111?ad; Mount: Through Hole; Operating Temperature Max: 100°C; Operating Temperature Min: -40°C; Packaging: Tube; Case/Size Code: DIP-6_M-Type; Forward Voltage: 1.24V; LED Trigger current: 10mA
footprint WL-OCTR_DIP-6_M-Type
pins: 1 Anode, 2 Cathode, 3 NC, 4 Terminal, 5 NC, 6 Terminal
text: ZCC

## 14230326301
designator Q?, comment 10mA, 1.24V  (value not drawn)
WL-OCTR Optocoupler Triac, SMT, DIP-6_SL-Type, 10mA, 1.24V; Manufacturer Part Number: 14230326301; Manufacturer: Wurth Elektronik; Isolation Voltage: 5000V (RMS); Repetitive Peak Off-state Voltage: 250V; Type: Zero Cross; Category: Optocoupler Triac; Match Code: WL-OCTR; ComponentLink1Description: Website Link; ComponentLink1URL: https://www.we-online.com/redexpert/article/14230326301?ad; ComponentLink2Description: Datasheet Link; ComponentLink2URL: https://www.we-online.com/redexpert/spec/14230326301?ad; Mount: Surface Mount; Operating Temperature Max: 100°C; Operating Temperature Min: -40°C; Packaging: Tube; Case/Size Code: DIP-6_SL-Type; Forward Voltage: 1.24V; LED Trigger current: 10mA
footprint WL-OCTR_DIP-6_SL-Type
pins: 1 Anode, 2 Cathode, 3 NC, 4 Terminal, 5 NC, 6 Terminal
text: ZCC

## 14230336011
designator Q?, comment 5mA, 1.24V  (value not drawn)
WL-OCTR Optocoupler Triac, THT, DIP-6_Standard, 5mA, 1.24V; Manufacturer Part Number: 14230336011; Manufacturer: Wurth Elektronik; Isolation Voltage: 5000V (RMS); Repetitive Peak Off-state Voltage: 250V; Type: Zero Cross; Category: Optocoupler Triac; Match Code: WL-OCTR; ComponentLink1Description: Website Link; ComponentLink1URL: https://www.we-online.com/redexpert/article/14230336011?ad; ComponentLink2Description: Datasheet Link; ComponentLink2URL: https://www.we-online.com/redexpert/spec/14230336011?ad; Mount: Through Hole; Operating Temperature Max: 100°C; Operating Temperature Min: -40°C; Packaging: Tube; Case/Size Code: DIP-6_Standard; Forward Voltage: 1.24V; LED Trigger current: 5mA
footprint WL-OCTR_DIP-6_Standard
pins: 1 Anode, 2 Cathode, 3 NC, 4 Terminal, 5 NC, 6 Terminal
text: ZCC

## 14230336111
designator Q?, comment 5mA, 1.24V  (value not drawn)
WL-OCTR Optocoupler Triac, THT, DIP-6_M-Type, 5mA, 1.24V; Manufacturer Part Number: 14230336111; Manufacturer: Wurth Elektronik; Isolation Voltage: 5000V (RMS); Repetitive Peak Off-state Voltage: 250V; Type: Zero Cross; Category: Optocoupler Triac; Match Code: WL-OCTR; ComponentLink1Description: Website Link; ComponentLink1URL: https://www.we-online.com/redexpert/article/14230336111?ad; ComponentLink2Description: Datasheet Link; ComponentLink2URL: https://www.we-online.com/redexpert/spec/14230336111?ad; Mount: Through Hole; Operating Temperature Max: 100°C; Operating Temperature Min: -40°C; Packaging: Tube; Case/Size Code: DIP-6_M-Type; Forward Voltage: 1.24V; LED Trigger current: 5mA
footprint WL-OCTR_DIP-6_M-Type
pins: 1 Anode, 2 Cathode, 3 NC, 4 Terminal, 5 NC, 6 Terminal
text: ZCC

## 14230336301
designator Q?, comment 5mA, 1.24V  (value not drawn)
WL-OCTR Optocoupler Triac, SMT, DIP-6_SL-Type, 5mA, 1.24V; Manufacturer Part Number: 14230336301; Manufacturer: Wurth Elektronik; Isolation Voltage: 5000V (RMS); Repetitive Peak Off-state Voltage: 250V; Type: Zero Cross; Category: Optocoupler Triac; Match Code: WL-OCTR; ComponentLink1Description: Website Link; ComponentLink1URL: https://www.we-online.com/redexpert/article/14230336301?ad; ComponentLink2Description: Datasheet Link; ComponentLink2URL: https://www.we-online.com/redexpert/spec/14230336301?ad; Mount: Surface Mount; Operating Temperature Max: 100°C; Operating Temperature Min: -40°C; Packaging: Tube; Case/Size Code: DIP-6_SL-Type; Forward Voltage: 1.24V; LED Trigger current: 5mA
footprint WL-OCTR_DIP-6_SL-Type
pins: 1 Anode, 2 Cathode, 3 NC, 4 Terminal, 5 NC, 6 Terminal
text: ZCC

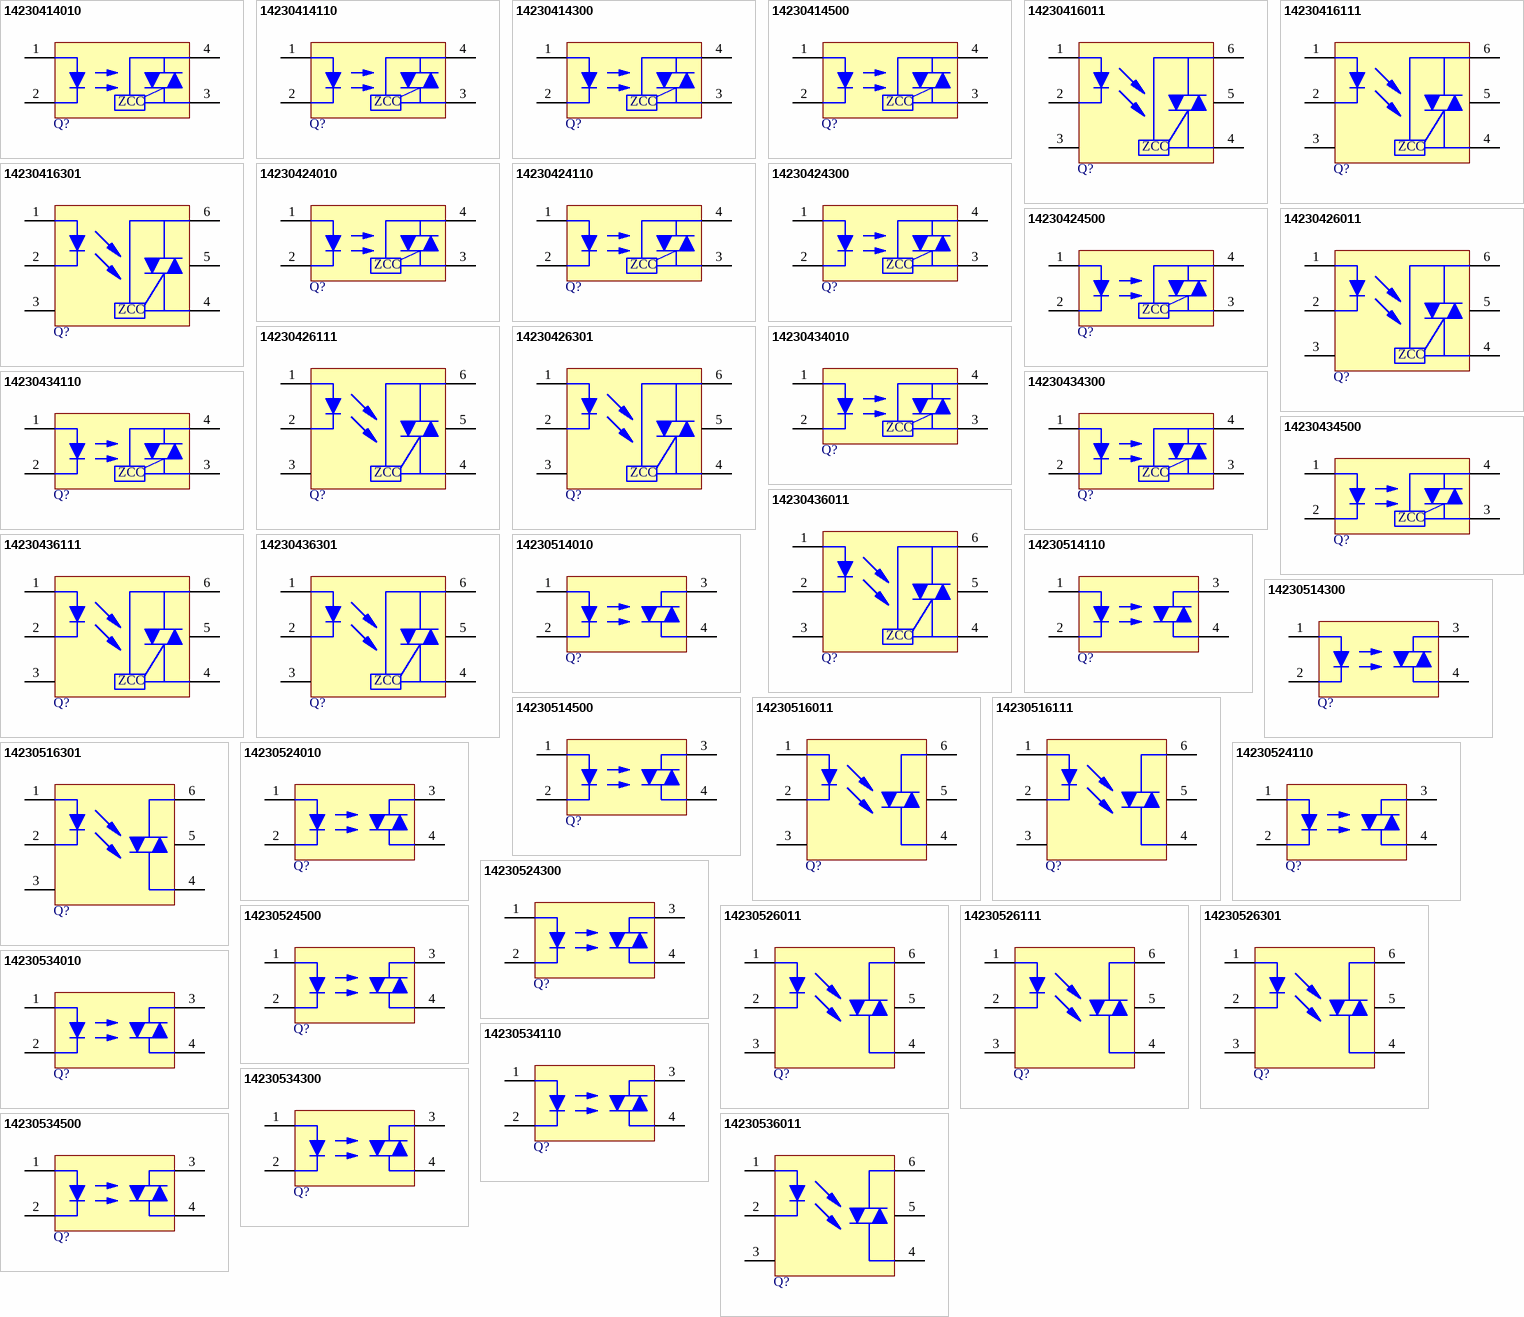
[diagram p1: symbols 14230414010 to 14230536011]

## 14230414010
designator Q?, comment 15mA, 1.24V  (value not drawn)
WL-OCTR Optocoupler Triac, THT, DIP-4_Standard, 15mA, 1.24V; Manufacturer Part Number: 14230414010; Manufacturer: Wurth Elektronik; Isolation Voltage: 5000V (RMS); Repetitive Peak Off-state Voltage: 400V; Type: Zero Cross; Category: Optocoupler Triac; Match Code: WL-OCTR; ComponentLink1Description: Website Link; ComponentLink1URL: https://www.we-online.com/redexpert/article/14230414010?ad; ComponentLink2Description: Datasheet Link; ComponentLink2URL: https://www.we-online.com/redexpert/spec/14230414010?ad; Mount: Through Hole; Operating Temperature Max: 100°C; Operating Temperature Min: -40°C; Packaging: Tube; Case/Size Code: DIP-4_Standard; Forward Voltage: 1.24V; LED Trigger current: 15mA
footprint WL-OCTR_DIP-4_Standard
pins: 1 Anode, 2 Cathode, 3 Terminal, 4 Terminal
text: ZCC

## 14230414110
designator Q?, comment 15mA, 1.24V  (value not drawn)
WL-OCTR Optocoupler Triac, THT, DIP-4_M-Type, 15mA, 1.24V; Manufacturer Part Number: 14230414110; Manufacturer: Wurth Elektronik; Isolation Voltage: 5000V (RMS); Repetitive Peak Off-state Voltage: 400V; Type: Zero Cross; Category: Optocoupler Triac; Match Code: WL-OCTR; ComponentLink1Description: Website Link; ComponentLink1URL: https://www.we-online.com/redexpert/article/14230414110?ad; ComponentLink2Description: Datasheet Link; ComponentLink2URL: https://www.we-online.com/redexpert/spec/14230414110?ad; Mount: Through Hole; Operating Temperature Max: 100°C; Operating Temperature Min: -40°C; Packaging: Tube; Case/Size Code: DIP-4_M-Type; Forward Voltage: 1.24V; LED Trigger current: 15mA
footprint WL-OCTR_DIP-4_M-Type
pins: 1 Anode, 2 Cathode, 3 Terminal, 4 Terminal
text: ZCC

## 14230414300
designator Q?, comment 15mA, 1.24V  (value not drawn)
WL-OCTR Optocoupler Triac, SMT, DIP-4_SL-Type, 15mA, 1.24V; Manufacturer Part Number: 14230414300; Manufacturer: Wurth Elektronik; Isolation Voltage: 5000V (RMS); Repetitive Peak Off-state Voltage: 400V; Type: Zero Cross; Category: Optocoupler Triac; Match Code: WL-OCTR; ComponentLink1Description: Website Link; ComponentLink1URL: https://www.we-online.com/redexpert/article/14230414300?ad; ComponentLink2Description: Datasheet Link; ComponentLink2URL: https://www.we-online.com/redexpert/spec/14230414300?ad; Mount: Surface Mount; Operating Temperature Max: 100°C; Operating Temperature Min: -40°C; Packaging: Tube; Case/Size Code: DIP-4_SL-Type; Forward Voltage: 1.24V; LED Trigger current: 15mA
footprint WL-OCTR_DIP-4_SL-Type
pins: 1 Anode, 2 Cathode, 3 Terminal, 4 Terminal
text: ZCC

## 14230414500
designator Q?, comment 15mA, 1.24V  (value not drawn)
WL-OCTR Optocoupler Triac, SMT, SOP-4_Standard, 15mA, 1.24V; Manufacturer Part Number: 14230414500; Manufacturer: Wurth Elektronik; Isolation Voltage: 3750V (RMS); Repetitive Peak Off-state Voltage: 400V; Type: Zero Cross; Category: Optocoupler Triac; Match Code: WL-OCTR; ComponentLink1Description: Website Link; ComponentLink1URL: https://www.we-online.com/redexpert/article/14230414500?ad; ComponentLink2Description: Datasheet Link; ComponentLink2URL: https://www.we-online.com/redexpert/spec/14230414500?ad; Mount: Surface Mount; Operating Temperature Max: 100°C; Operating Temperature Min: -40°C; Packaging: Tape and Reel; Case/Size Code: SOP-4_Standard; Forward Voltage: 1.24V; LED Trigger current: 15mA
footprint WL-OCTR_SOP-4_Standard
pins: 1 Anode, 2 Cathode, 3 Terminal, 4 Terminal
text: ZCC

## 14230416011
designator Q?, comment 15mA, 1.24V  (value not drawn)
WL-OCTR Optocoupler Triac, THT, DIP-6_Standard, 15mA, 1.24V; Manufacturer Part Number: 14230416011; Manufacturer: Wurth Elektronik; Isolation Voltage: 5000V (RMS); Repetitive Peak Off-state Voltage: 400V; Type: Zero Cross; Category: Optocoupler Triac; Match Code: WL-OCTR; ComponentLink1Description: Website Link; ComponentLink1URL: https://www.we-online.com/redexpert/article/14230416011?ad; ComponentLink2Description: Datasheet Link; ComponentLink2URL: https://www.we-online.com/redexpert/spec/14230416011?ad; Mount: Through Hole; Operating Temperature Max: 100°C; Operating Temperature Min: -40°C; Packaging: Tube; Case/Size Code: DIP-6_Standard; Forward Voltage: 1.24V; LED Trigger current: 15mA
footprint WL-OCTR_DIP-6_Standard
pins: 1 Anode, 2 Cathode, 3 NC, 4 Terminal, 5 NC, 6 Terminal
text: ZCC

## 14230416111
designator Q?, comment 15mA, 1.24V  (value not drawn)
WL-OCTR Optocoupler Triac, THT, DIP-6_M-Type, 15mA, 1.24V; Manufacturer Part Number: 14230416111; Manufacturer: Wurth Elektronik; Isolation Voltage: 5000V (RMS); Repetitive Peak Off-state Voltage: 400V; Type: Zero Cross; Category: Optocoupler Triac; Match Code: WL-OCTR; ComponentLink1Description: Website Link; ComponentLink1URL: https://www.we-online.com/redexpert/article/14230416111?ad; ComponentLink2Description: Datasheet Link; ComponentLink2URL: https://www.we-online.com/redexpert/spec/14230416111?ad; Mount: Through Hole; Operating Temperature Max: 100°C; Operating Temperature Min: -40°C; Packaging: Tube; Case/Size Code: DIP-6_M-Type; Forward Voltage: 1.24V; LED Trigger current: 15mA
footprint WL-OCTR_DIP-6_M-Type
pins: 1 Anode, 2 Cathode, 3 NC, 4 Terminal, 5 NC, 6 Terminal
text: ZCC

## 14230416301
designator Q?, comment 15mA, 1.24V  (value not drawn)
WL-OCTR Optocoupler Triac, SMT, DIP-6_SL-Type, 15mA, 1.24V; Manufacturer Part Number: 14230416301; Manufacturer: Wurth Elektronik; Isolation Voltage: 5000V (RMS); Repetitive Peak Off-state Voltage: 400V; Type: Zero Cross; Category: Optocoupler Triac; Match Code: WL-OCTR; ComponentLink1Description: Website Link; ComponentLink1URL: https://www.we-online.com/redexpert/article/14230416301?ad; ComponentLink2Description: Datasheet Link; ComponentLink2URL: https://www.we-online.com/redexpert/spec/14230416301?ad; Mount: Surface Mount; Operating Temperature Max: 100°C; Operating Temperature Min: -40°C; Packaging: Tube; Case/Size Code: DIP-6_SL-Type; Forward Voltage: 1.24V; LED Trigger current: 15mA
footprint WL-OCTR_DIP-6_SL-Type
pins: 1 Anode, 2 Cathode, 3 NC, 4 Terminal, 5 NC, 6 Terminal
text: ZCC

## 14230424010
designator Q?, comment 10mA, 1.24V  (value not drawn)
WL-OCTR Optocoupler Triac, THT, DIP-4_Standard, 10mA, 1.24V; Manufacturer Part Number: 14230424010; Manufacturer: Wurth Elektronik; Isolation Voltage: 5000V (RMS); Repetitive Peak Off-state Voltage: 400V; Type: Zero Cross; Category: Optocoupler Triac; Match Code: WL-OCTR; ComponentLink1Description: Website Link; ComponentLink1URL: https://www.we-online.com/redexpert/article/14230424010?ad; ComponentLink2Description: Datasheet Link; ComponentLink2URL: https://www.we-online.com/redexpert/spec/14230424010?ad; Mount: Through Hole; Operating Temperature Max: 100°C; Operating Temperature Min: -40°C; Packaging: Tube; Case/Size Code: DIP-4_Standard; Forward Voltage: 1.24V; LED Trigger current: 10mA
footprint WL-OCTR_DIP-4_Standard
pins: 1 Anode, 2 Cathode, 3 Terminal, 4 Terminal
text: ZCC

## 14230424110
designator Q?, comment 10mA, 1.24V  (value not drawn)
WL-OCTR Optocoupler Triac, THT, DIP-4_M-Type, 10mA, 1.24V; Manufacturer Part Number: 14230424110; Manufacturer: Wurth Elektronik; Isolation Voltage: 5000V (RMS); Repetitive Peak Off-state Voltage: 400V; Type: Zero Cross; Category: Optocoupler Triac; Match Code: WL-OCTR; ComponentLink1Description: Website Link; ComponentLink1URL: https://www.we-online.com/redexpert/article/14230424110?ad; ComponentLink2Description: Datasheet Link; ComponentLink2URL: https://www.we-online.com/redexpert/spec/14230424110?ad; Mount: Through Hole; Operating Temperature Max: 100°C; Operating Temperature Min: -40°C; Packaging: Tube; Case/Size Code: DIP-4_M-Type; Forward Voltage: 1.24V; LED Trigger current: 10mA
footprint WL-OCTR_DIP-4_M-Type
pins: 1 Anode, 2 Cathode, 3 Terminal, 4 Terminal
text: ZCC

## 14230424300
designator Q?, comment 10mA, 1.24V  (value not drawn)
WL-OCTR Optocoupler Triac, SMT, DIP-4_SL-Type, 10mA, 1.24V; Manufacturer Part Number: 14230424300; Manufacturer: Wurth Elektronik; Isolation Voltage: 5000V (RMS); Repetitive Peak Off-state Voltage: 400V; Type: Zero Cross; Category: Optocoupler Triac; Match Code: WL-OCTR; ComponentLink1Description: Website Link; ComponentLink1URL: https://www.we-online.com/redexpert/article/14230424300?ad; ComponentLink2Description: Datasheet Link; ComponentLink2URL: https://www.we-online.com/redexpert/spec/14230424300?ad; Mount: Surface Mount; Operating Temperature Max: 100°C; Operating Temperature Min: -40°C; Packaging: Tube; Case/Size Code: DIP-4_SL-Type; Forward Voltage: 1.24V; LED Trigger current: 10mA
footprint WL-OCTR_DIP-4_SL-Type
pins: 1 Anode, 2 Cathode, 3 Terminal, 4 Terminal
text: ZCC

## 14230424500
designator Q?, comment 10mA, 1.24V  (value not drawn)
WL-OCTR Optocoupler Triac, SMT, SOP-4_Standard, 10mA, 1.24V; Manufacturer Part Number: 14230424500; Manufacturer: Wurth Elektronik; Isolation Voltage: 3750V (RMS); Repetitive Peak Off-state Voltage: 400V; Type: Zero Cross; Category: Optocoupler Triac; Match Code: WL-OCTR; ComponentLink1Description: Website Link; ComponentLink1URL: https://www.we-online.com/redexpert/article/14230424500?ad; ComponentLink2Description: Datasheet Link; ComponentLink2URL: https://www.we-online.com/redexpert/spec/14230424500?ad; Mount: Surface Mount; Operating Temperature Max: 100°C; Operating Temperature Min: -40°C; Packaging: Tape and Reel; Case/Size Code: SOP-4_Standard; Forward Voltage: 1.24V; LED Trigger current: 10mA
footprint WL-OCTR_SOP-4_Standard
pins: 1 Anode, 2 Cathode, 3 Terminal, 4 Terminal
text: ZCC

## 14230426011
designator Q?, comment 10mA, 1.24V  (value not drawn)
WL-OCTR Optocoupler Triac, THT, DIP-6_Standard, 10mA, 1.24V; Manufacturer Part Number: 14230426011; Manufacturer: Wurth Elektronik; Isolation Voltage: 5000V (RMS); Repetitive Peak Off-state Voltage: 400V; Type: Zero Cross; Category: Optocoupler Triac; Match Code: WL-OCTR; ComponentLink1Description: Website Link; ComponentLink1URL: https://www.we-online.com/redexpert/article/14230426011?ad; ComponentLink2Description: Datasheet Link; ComponentLink2URL: https://www.we-online.com/redexpert/spec/14230426011?ad; Mount: Through Hole; Operating Temperature Max: 100°C; Operating Temperature Min: -40°C; Packaging: Tube; Case/Size Code: DIP-6_Standard; Forward Voltage: 1.24V; LED Trigger current: 10mA
footprint WL-OCTR_DIP-6_Standard
pins: 1 Anode, 2 Cathode, 3 NC, 4 Terminal, 5 NC, 6 Terminal
text: ZCC

## 14230426111
designator Q?, comment 10mA, 1.24V  (value not drawn)
WL-OCTR Optocoupler Triac, THT, DIP-6_M-Type, 10mA, 1.24V; Manufacturer Part Number: 14230426111; Manufacturer: Wurth Elektronik; Isolation Voltage: 5000V (RMS); Repetitive Peak Off-state Voltage: 400V; Type: Zero Cross; Category: Optocoupler Triac; Match Code: WL-OCTR; ComponentLink1Description: Website Link; ComponentLink1URL: https://www.we-online.com/redexpert/article/14230426111?ad; ComponentLink2Description: Datasheet Link; ComponentLink2URL: https://www.we-online.com/redexpert/spec/14230426111?ad; Mount: Through Hole; Operating Temperature Max: 100°C; Operating Temperature Min: -40°C; Packaging: Tube; Case/Size Code: DIP-6_M-Type; Forward Voltage: 1.24V; LED Trigger current: 10mA
footprint WL-OCTR_DIP-6_M-Type
pins: 1 Anode, 2 Cathode, 3 NC, 4 Terminal, 5 NC, 6 Terminal
text: ZCC

## 14230426301
designator Q?, comment 10mA, 1.24V  (value not drawn)
WL-OCTR Optocoupler Triac, SMT, DIP-6_SL-Type, 10mA, 1.24V; Manufacturer Part Number: 14230426301; Manufacturer: Wurth Elektronik; Isolation Voltage: 5000V (RMS); Repetitive Peak Off-state Voltage: 400V; Type: Zero Cross; Category: Optocoupler Triac; Match Code: WL-OCTR; ComponentLink1Description: Website Link; ComponentLink1URL: https://www.we-online.com/redexpert/article/14230426301?ad; ComponentLink2Description: Datasheet Link; ComponentLink2URL: https://www.we-online.com/redexpert/spec/14230426301?ad; Mount: Surface Mount; Operating Temperature Max: 100°C; Operating Temperature Min: -40°C; Packaging: Tube; Case/Size Code: DIP-6_SL-Type; Forward Voltage: 1.24V; LED Trigger current: 10mA
footprint WL-OCTR_DIP-6_SL-Type
pins: 1 Anode, 2 Cathode, 3 NC, 4 Terminal, 5 NC, 6 Terminal
text: ZCC

## 14230434010
designator Q?, comment 5mA, 1.24V  (value not drawn)
WL-OCTR Optocoupler Triac, THT, DIP-4_Standard, 5mA, 1.24V; Manufacturer Part Number: 14230434010; Manufacturer: Wurth Elektronik; Isolation Voltage: 5000V (RMS); Repetitive Peak Off-state Voltage: 400V; Type: Zero Cross; Category: Optocoupler Triac; Match Code: WL-OCTR; ComponentLink1Description: Website Link; ComponentLink1URL: https://www.we-online.com/redexpert/article/14230434010?ad; ComponentLink2Description: Datasheet Link; ComponentLink2URL: https://www.we-online.com/redexpert/spec/14230434010?ad; Mount: Through Hole; Operating Temperature Max: 100°C; Operating Temperature Min: -40°C; Packaging: Tube; Case/Size Code: DIP-4_Standard; Forward Voltage: 1.24V; LED Trigger current: 5mA
footprint WL-OCTR_DIP-4_Standard
pins: 1 Anode, 2 Cathode, 3 Terminal, 4 Terminal
text: ZCC

## 14230434110
designator Q?, comment 5mA, 1.24V  (value not drawn)
WL-OCTR Optocoupler Triac, THT, DIP-4_M-Type, 5mA, 1.24V; Manufacturer Part Number: 14230434110; Manufacturer: Wurth Elektronik; Isolation Voltage: 5000V (RMS); Repetitive Peak Off-state Voltage: 400V; Type: Zero Cross; Category: Optocoupler Triac; Match Code: WL-OCTR; ComponentLink1Description: Website Link; ComponentLink1URL: https://www.we-online.com/redexpert/article/14230434110?ad; ComponentLink2Description: Datasheet Link; ComponentLink2URL: https://www.we-online.com/redexpert/spec/14230434110?ad; Mount: Through Hole; Operating Temperature Max: 100°C; Operating Temperature Min: -40°C; Packaging: Tube; Case/Size Code: DIP-4_M-Type; Forward Voltage: 1.24V; LED Trigger current: 5mA
footprint WL-OCTR_DIP-4_M-Type
pins: 1 Anode, 2 Cathode, 3 Terminal, 4 Terminal
text: ZCC

## 14230434300
designator Q?, comment 5mA, 1.24V  (value not drawn)
WL-OCTR Optocoupler Triac, SMT, DIP-4_SL-Type, 5mA, 1.24V; Manufacturer Part Number: 14230434300; Manufacturer: Wurth Elektronik; Isolation Voltage: 5000V (RMS); Repetitive Peak Off-state Voltage: 400V; Type: Zero Cross; Category: Optocoupler Triac; Match Code: WL-OCTR; ComponentLink1Description: Website Link; ComponentLink1URL: https://www.we-online.com/redexpert/article/14230434300?ad; ComponentLink2Description: Datasheet Link; ComponentLink2URL: https://www.we-online.com/redexpert/spec/14230434300?ad; Mount: Surface Mount; Operating Temperature Max: 100°C; Operating Temperature Min: -40°C; Packaging: Tube; Case/Size Code: DIP-4_SL-Type; Forward Voltage: 1.24V; LED Trigger current: 5mA
footprint WL-OCTR_DIP-4_SL-Type
pins: 1 Anode, 2 Cathode, 3 Terminal, 4 Terminal
text: ZCC